# EAGLE library part MIC4680 (library BillPorter)
MIC4680 1A 200kHz SuperSwitcher? DC/DC Buck Regulator in a SOIC-8 package. Fixed or adjustable output. !!!Untested!!! Specs @ http://www.micrel.com/page.do?page=/product-info/products/mic4680.shtml
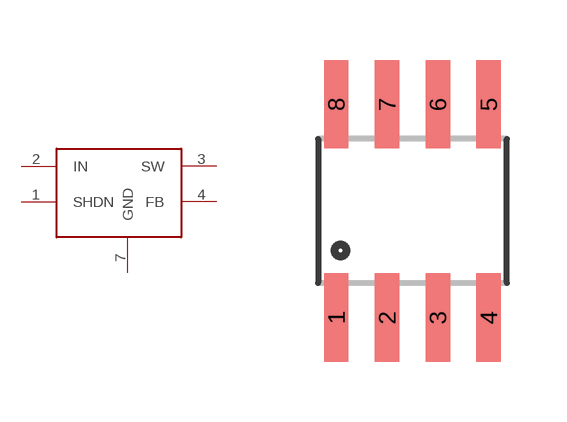
[diagram p3: symbol with the pads of SOIC-8; footprint SOIC-8]

Designator prefix -

## MIC4680  [SOIC-8]
1  SHDN
2  IN
3  SW
4  FB
5  GND  pwr
6  GND  pwr
7  GND  pwr
8  GND  pwr

## Footprint SOIC-8 (pad centres in mm)
smd 0.61 x 2.21: 1 -1.905,-2.54; 2 -0.635,-2.54; 3 0.635,-2.54; 4 1.905,-2.54; 5 1.905,2.794; 6 0.635,2.794; 7 -0.635,2.794; 8 -1.905,2.794